# Altium footprint library ADCs.PcbLib: 1 footprints
Each footprint in its own frame and in the unit in brackets; x right, y up, seen from the top. Pads: shape width x height; smd on the part's side, far side on the other; paste and mask are expansions set on the pad; w line width, h text height; cw(c..) or ccw(c..) is an arc to the next point about the centre after c.
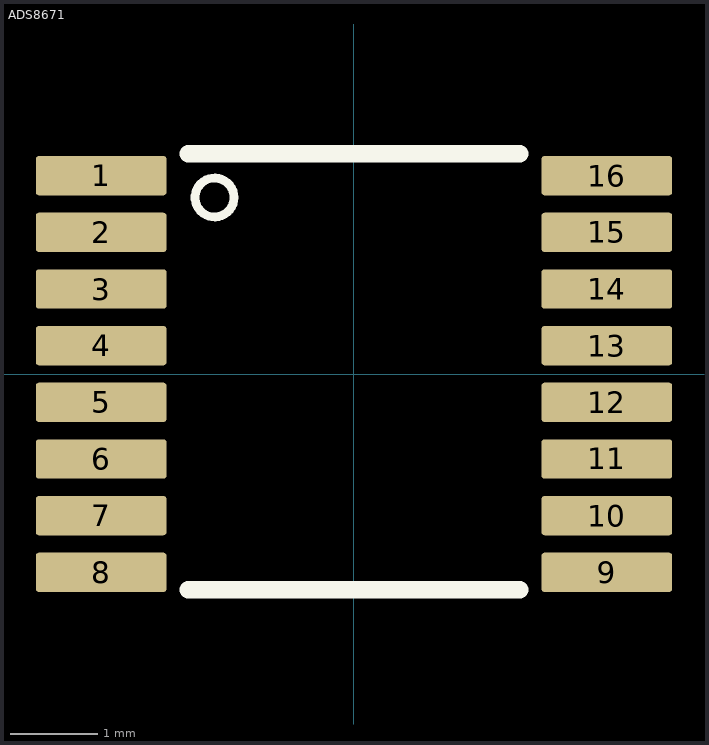
[diagram p0: the footprint, top view; thin cyan lines are the x and y axes]

## ADS8671 [mm] "14-Bit, High-Speed, Single Supply, SAR ADC Data Acq. System with progr., bipolar input ranges"
pads (16):
  rrect15% 1.5x0.45 smd: 1(-2.9,2.275) 2(-2.9,1.625) 3(-2.9,0.975) 4(-2.9,0.325) 5(-2.9,-0.325) 6(-2.9,-0.975) 7(-2.9,-1.625) 8(-2.9,-2.275) 9(2.9,-2.275) 10(2.9,-1.625) 11(2.9,-0.975) 12(2.9,-0.325) 13(2.9,0.325) 14(2.9,0.975) 15(2.9,1.625) 16(2.9,2.275)
Top Overlay:
  circle w0.1: c-1.6,2.025 r0.224
  lines w0.2: -1.9,-2.475 1.9,-2.475 ; -1.9,2.525 1.9,2.525
3D body "TSSOP16-4.5-5.0-0.65mm.STEP": height 1.2, standoff 0, extent -3.2,-2.459 3.2,2.51